# Altium footprint library Connector_Molex.PcbLib: 815 footprints (part 39 of 51)
Each footprint in its own frame and in the unit in brackets; x right, y up, seen from the top. Pads: shape width x height; smd on the part's side, far side on the other; paste and mask are expansions set on the pad; w line width, h text height; cw(c..) or ccw(c..) is an arc to the next point about the centre after c.
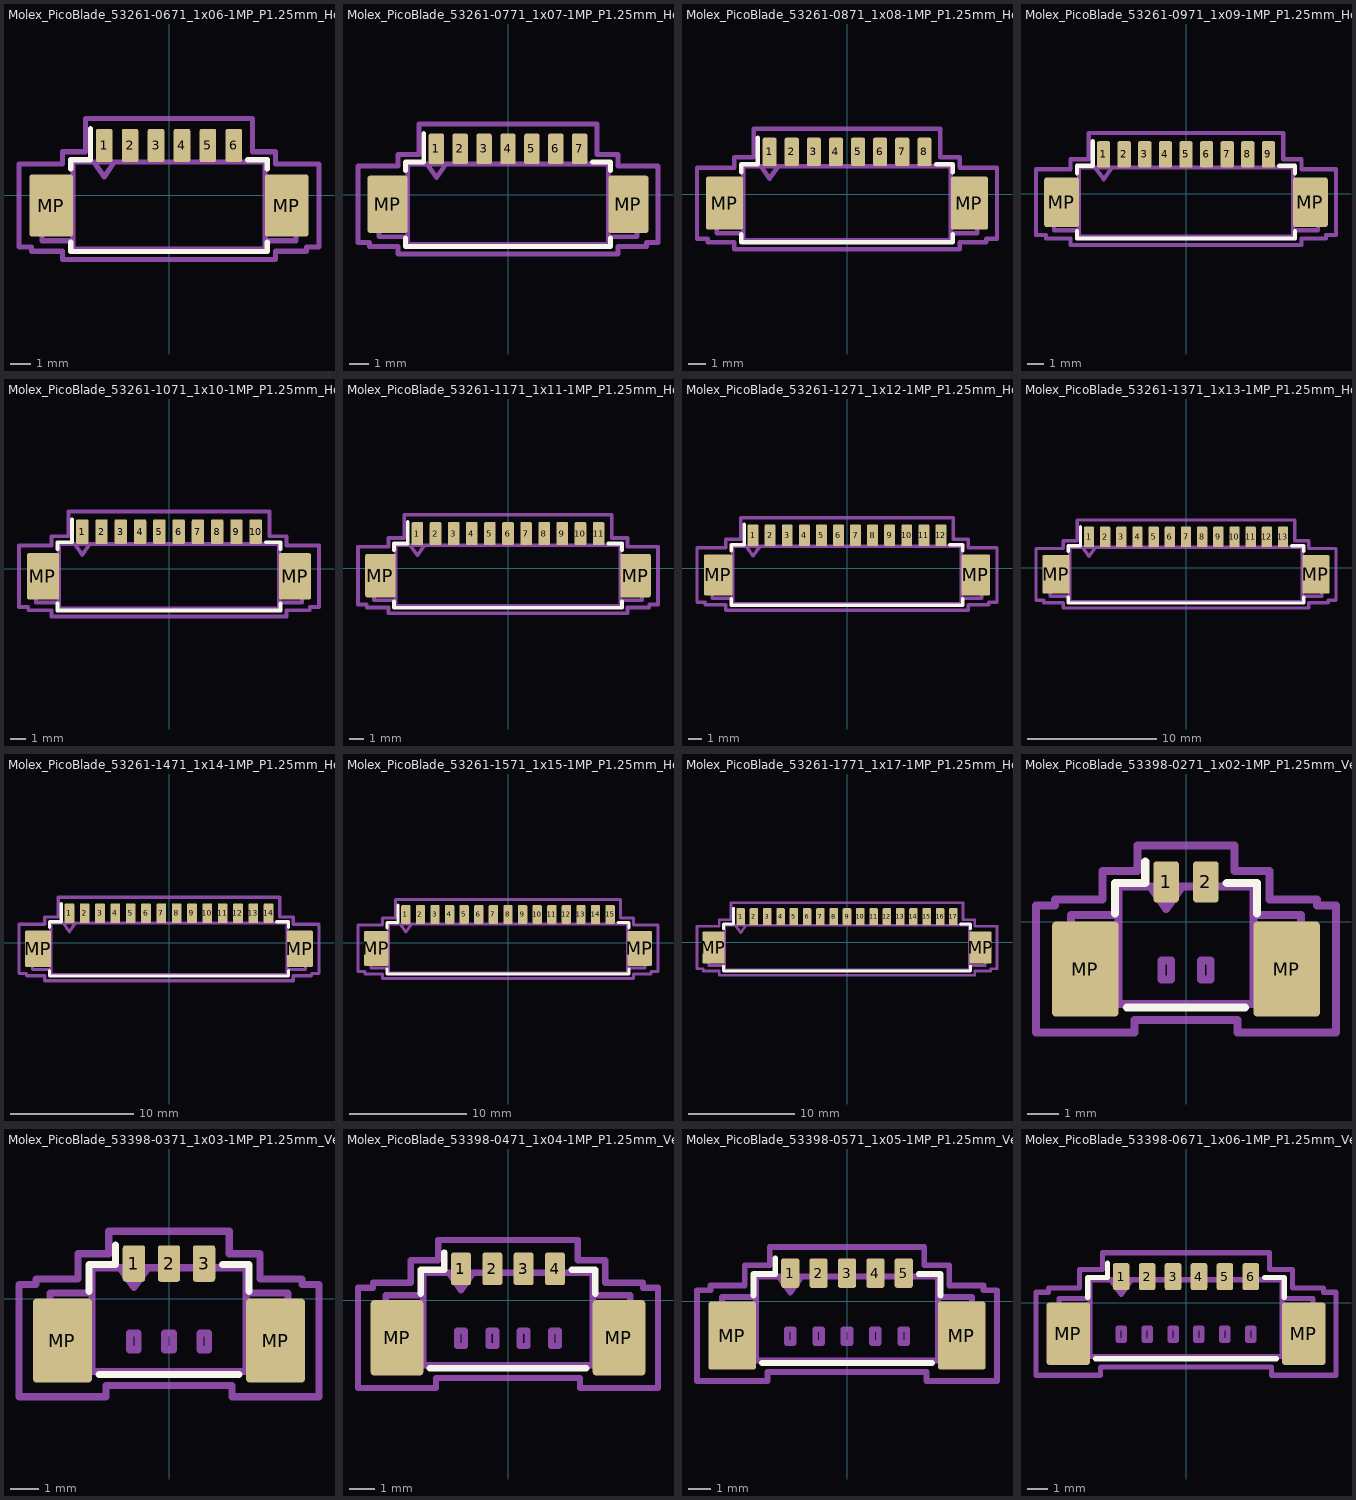
[diagram p38: the footprints below, top view; thin cyan lines are the x and y axes]

## Molex_PicoBlade_53261-0671_1x06-1MP_P1.25mm_Horizontal [mm]
pads (8):
  rrect25% 0.8x1.6 smd: 1(-3.125,2.4) 2(-1.875,2.4) 3(-0.625,2.4) 4(0.625,2.4) 5(1.875,2.4) 6(3.125,2.4)
  rrect12% 2.1x3 smd: MP(-5.675,-0.5) MP(5.675,-0.5)
F.SilkS:
  lines w0.254: -4.735,-2.26 -4.735,-2.71 4.735,-2.71 4.735,-2.26 ; -4.735,1.26 -4.735,1.71 -3.785,1.71 -3.785,3.2 ; 3.785,1.71 4.735,1.71 4.735,1.26
Top Assembly:
  lines w0.254: -4.625,-2.2 -6.125,-2.2 -6.125,-1.6 -6.325,-1.4 -6.325,0.4 -6.125,0.6 -4.625,0.6 ; -3.625,1.6 -3.125,0.893 -2.625,1.6 ; 4.625,-2.2 6.125,-2.2 6.125,-1.6 6.325,-1.4 6.325,0.4 6.125,0.6 4.625,0.6 ; -4.625,-2.6 4.625,-2.6 4.625,1.6 -4.625,1.6 -4.625,-2.6
  text "'.Designator'" at -4.047,-2.74 h1
Top Courtyard:
  lines w0.254: -7.23,-2.5 -6.63,-2.5 -6.63,-2.7 -5.13,-2.7 -5.13,-3.1 5.13,-3.1 5.13,-2.7 6.63,-2.7 6.63,-2.5 7.23,-2.5 7.23,1.5 5.13,1.5 5.13,2.1 4.03,2.1 4.03,3.7 -4.03,3.7 -4.03,2.1 -5.13,2.1 -5.13,1.5 -7.23,1.5 -7.23,-2.5
Top Designator:
  text ".Designator" at -7.618,-0.208 h1.52

## Molex_PicoBlade_53261-0771_1x07-1MP_P1.25mm_Horizontal [mm]
pads (9):
  rrect25% 0.8x1.6 smd: 1(-3.75,2.4) 2(-2.5,2.4) 3(-1.25,2.4) 4(0,2.4) 5(1.25,2.4) 6(2.5,2.4) 7(3.75,2.4)
  rrect12% 2.1x3 smd: MP(-6.3,-0.5) MP(6.3,-0.5)
F.SilkS:
  lines w0.254: -5.36,-2.26 -5.36,-2.71 5.36,-2.71 5.36,-2.26 ; -5.36,1.26 -5.36,1.71 -4.41,1.71 -4.41,3.2 ; 4.41,1.71 5.36,1.71 5.36,1.26
Top Assembly:
  lines w0.254: -5.25,-2.2 -6.75,-2.2 -6.75,-1.6 -6.95,-1.4 -6.95,0.4 -6.75,0.6 -5.25,0.6 ; -4.25,1.6 -3.75,0.893 -3.25,1.6 ; 5.25,-2.2 6.75,-2.2 6.75,-1.6 6.95,-1.4 6.95,0.4 6.75,0.6 5.25,0.6 ; -5.25,-2.6 5.25,-2.6 5.25,1.6 -5.25,1.6 -5.25,-2.6
  text "'.Designator'" at -4.047,-2.74 h1
Top Courtyard:
  lines w0.254: -7.85,-2.5 -7.25,-2.5 -7.25,-2.7 -5.75,-2.7 -5.75,-3.1 5.75,-3.1 5.75,-2.7 7.25,-2.7 7.25,-2.5 7.85,-2.5 7.85,1.5 5.75,1.5 5.75,2.1 4.65,2.1 4.65,3.7 -4.65,3.7 -4.65,2.1 -5.75,2.1 -5.75,1.5 -7.85,1.5 -7.85,-2.5
Top Designator:
  text ".Designator" at -7.618,-0.208 h1.52

## Molex_PicoBlade_53261-0871_1x08-1MP_P1.25mm_Horizontal [mm]
pads (10):
  rrect25% 0.8x1.6 smd: 1(-4.375,2.4) 2(-3.125,2.4) 3(-1.875,2.4) 4(-0.625,2.4) 5(0.625,2.4) 6(1.875,2.4) 7(3.125,2.4) 8(4.375,2.4)
  rrect12% 2.1x3 smd: MP(-6.925,-0.5) MP(6.925,-0.5)
F.SilkS:
  lines w0.254: -5.985,-2.26 -5.985,-2.71 5.985,-2.71 5.985,-2.26 ; -5.985,1.26 -5.985,1.71 -5.035,1.71 -5.035,3.2 ; 5.035,1.71 5.985,1.71 5.985,1.26
Top Assembly:
  lines w0.254: -5.875,-2.2 -7.375,-2.2 -7.375,-1.6 -7.575,-1.4 -7.575,0.4 -7.375,0.6 -5.875,0.6 ; -4.875,1.6 -4.375,0.893 -3.875,1.6 ; 5.875,-2.2 7.375,-2.2 7.375,-1.6 7.575,-1.4 7.575,0.4 7.375,0.6 5.875,0.6 ; -5.875,-2.6 5.875,-2.6 5.875,1.6 -5.875,1.6 -5.875,-2.6
  text "'.Designator'" at -4.047,-2.74 h1
Top Courtyard:
  lines w0.254: -8.48,-2.5 -7.88,-2.5 -7.88,-2.7 -6.38,-2.7 -6.38,-3.1 6.38,-3.1 6.38,-2.7 7.88,-2.7 7.88,-2.5 8.48,-2.5 8.48,1.5 6.38,1.5 6.38,2.1 5.28,2.1 5.28,3.7 -5.28,3.7 -5.28,2.1 -6.38,2.1 -6.38,1.5 -8.48,1.5 -8.48,-2.5
Top Designator:
  text ".Designator" at -7.618,-0.208 h1.52

## Molex_PicoBlade_53261-0971_1x09-1MP_P1.25mm_Horizontal [mm]
pads (11):
  rrect25% 0.8x1.6 smd: 1(-5,2.4) 2(-3.75,2.4) 3(-2.5,2.4) 4(-1.25,2.4) 5(0,2.4) 6(1.25,2.4) 7(2.5,2.4) 8(3.75,2.4) 9(5,2.4)
  rrect12% 2.1x3 smd: MP(-7.55,-0.5) MP(7.55,-0.5)
F.SilkS:
  lines w0.254: -6.61,-2.26 -6.61,-2.71 6.61,-2.71 6.61,-2.26 ; -6.61,1.26 -6.61,1.71 -5.66,1.71 -5.66,3.2 ; 5.66,1.71 6.61,1.71 6.61,1.26
Top Assembly:
  lines w0.254: -6.5,-2.2 -8,-2.2 -8,-1.6 -8.2,-1.4 -8.2,0.4 -8,0.6 -6.5,0.6 ; -5.5,1.6 -5,0.893 -4.5,1.6 ; 6.5,-2.2 8,-2.2 8,-1.6 8.2,-1.4 8.2,0.4 8,0.6 6.5,0.6 ; -6.5,-2.6 6.5,-2.6 6.5,1.6 -6.5,1.6 -6.5,-2.6
  text "'.Designator'" at -4.047,-2.74 h1
Top Courtyard:
  lines w0.254: -9.1,-2.5 -8.5,-2.5 -8.5,-2.7 -7,-2.7 -7,-3.1 7,-3.1 7,-2.7 8.5,-2.7 8.5,-2.5 9.1,-2.5 9.1,1.5 7,1.5 7,2.1 5.9,2.1 5.9,3.7 -5.9,3.7 -5.9,2.1 -7,2.1 -7,1.5 -9.1,1.5 -9.1,-2.5
Top Designator:
  text ".Designator" at -7.618,-0.208 h1.52

## Molex_PicoBlade_53261-1071_1x10-1MP_P1.25mm_Horizontal [mm]
pads (12):
  rrect25% 0.8x1.6 smd: 1(-5.625,2.4) 2(-4.375,2.4) 3(-3.125,2.4) 4(-1.875,2.4) 5(-0.625,2.4) 6(0.625,2.4) 7(1.875,2.4) 8(3.125,2.4) 9(4.375,2.4) 10(5.625,2.4)
  rrect12% 2.1x3 smd: MP(-8.175,-0.5) MP(8.175,-0.5)
F.SilkS:
  lines w0.254: -7.235,-2.26 -7.235,-2.71 7.235,-2.71 7.235,-2.26 ; -7.235,1.26 -7.235,1.71 -6.285,1.71 -6.285,3.2 ; 6.285,1.71 7.235,1.71 7.235,1.26
Top Assembly:
  lines w0.254: -7.125,-2.2 -8.625,-2.2 -8.625,-1.6 -8.825,-1.4 -8.825,0.4 -8.625,0.6 -7.125,0.6 ; -6.125,1.6 -5.625,0.893 -5.125,1.6 ; 7.125,-2.2 8.625,-2.2 8.625,-1.6 8.825,-1.4 8.825,0.4 8.625,0.6 7.125,0.6 ; -7.125,-2.6 7.125,-2.6 7.125,1.6 -7.125,1.6 -7.125,-2.6
  text "'.Designator'" at -4.047,-2.74 h1
Top Courtyard:
  lines w0.254: -9.73,-2.5 -9.13,-2.5 -9.13,-2.7 -7.63,-2.7 -7.63,-3.1 7.63,-3.1 7.63,-2.7 9.13,-2.7 9.13,-2.5 9.73,-2.5 9.73,1.5 7.63,1.5 7.63,2.1 6.53,2.1 6.53,3.7 -6.53,3.7 -6.53,2.1 -7.63,2.1 -7.63,1.5 -9.73,1.5 -9.73,-2.5
Top Designator:
  text ".Designator" at -7.618,-0.208 h1.52

## Molex_PicoBlade_53261-1171_1x11-1MP_P1.25mm_Horizontal [mm]
pads (13):
  rrect25% 0.8x1.6 smd: 1(-6.25,2.4) 2(-5,2.4) 3(-3.75,2.4) 4(-2.5,2.4) 5(-1.25,2.4) 6(0,2.4) 7(1.25,2.4) 8(2.5,2.4) 9(3.75,2.4) 10(5,2.4) 11(6.25,2.4)
  rrect12% 2.1x3 smd: MP(-8.8,-0.5) MP(8.8,-0.5)
F.SilkS:
  lines w0.254: -7.86,-2.26 -7.86,-2.71 7.86,-2.71 7.86,-2.26 ; -7.86,1.26 -7.86,1.71 -6.91,1.71 -6.91,3.2 ; 6.91,1.71 7.86,1.71 7.86,1.26
Top Assembly:
  lines w0.254: -7.75,-2.2 -9.25,-2.2 -9.25,-1.6 -9.45,-1.4 -9.45,0.4 -9.25,0.6 -7.75,0.6 ; -6.75,1.6 -6.25,0.893 -5.75,1.6 ; 7.75,-2.2 9.25,-2.2 9.25,-1.6 9.45,-1.4 9.45,0.4 9.25,0.6 7.75,0.6 ; -7.75,-2.6 7.75,-2.6 7.75,1.6 -7.75,1.6 -7.75,-2.6
  text "'.Designator'" at -4.047,-2.74 h1
Top Courtyard:
  lines w0.254: -10.35,-2.5 -9.75,-2.5 -9.75,-2.7 -8.25,-2.7 -8.25,-3.1 8.25,-3.1 8.25,-2.7 9.75,-2.7 9.75,-2.5 10.35,-2.5 10.35,1.5 8.25,1.5 8.25,2.1 7.15,2.1 7.15,3.7 -7.15,3.7 -7.15,2.1 -8.25,2.1 -8.25,1.5 -10.35,1.5 -10.35,-2.5
Top Designator:
  text ".Designator" at -7.618,-0.208 h1.52

## Molex_PicoBlade_53261-1271_1x12-1MP_P1.25mm_Horizontal [mm]
pads (14):
  rrect25% 0.8x1.6 smd: 1(-6.875,2.4) 2(-5.625,2.4) 3(-4.375,2.4) 4(-3.125,2.4) 5(-1.875,2.4) 6(-0.625,2.4) 7(0.625,2.4) 8(1.875,2.4) 9(3.125,2.4) 10(4.375,2.4) 11(5.625,2.4) 12(6.875,2.4)
  rrect12% 2.1x3 smd: MP(-9.425,-0.5) MP(9.425,-0.5)
F.SilkS:
  lines w0.254: -8.485,-2.26 -8.485,-2.71 8.485,-2.71 8.485,-2.26 ; -8.485,1.26 -8.485,1.71 -7.535,1.71 -7.535,3.2 ; 7.535,1.71 8.485,1.71 8.485,1.26
Top Assembly:
  lines w0.254: -8.375,-2.2 -9.875,-2.2 -9.875,-1.6 -10.075,-1.4 -10.075,0.4 -9.875,0.6 -8.375,0.6 ; -7.375,1.6 -6.875,0.893 -6.375,1.6 ; 8.375,-2.2 9.875,-2.2 9.875,-1.6 10.075,-1.4 10.075,0.4 9.875,0.6 8.375,0.6 ; -8.375,-2.6 8.375,-2.6 8.375,1.6 -8.375,1.6 -8.375,-2.6
  text "'.Designator'" at -4.047,-2.74 h1
Top Courtyard:
  lines w0.254: -10.98,-2.5 -10.38,-2.5 -10.38,-2.7 -8.88,-2.7 -8.88,-3.1 8.88,-3.1 8.88,-2.7 10.38,-2.7 10.38,-2.5 10.98,-2.5 10.98,1.5 8.88,1.5 8.88,2.1 7.78,2.1 7.78,3.7 -7.78,3.7 -7.78,2.1 -8.88,2.1 -8.88,1.5 -10.98,1.5 -10.98,-2.5
Top Designator:
  text ".Designator" at -7.618,-0.208 h1.52

## Molex_PicoBlade_53261-1371_1x13-1MP_P1.25mm_Horizontal [mm]
pads (15):
  rrect25% 0.8x1.6 smd: 1(-7.5,2.4) 2(-6.25,2.4) 3(-5,2.4) 4(-3.75,2.4) 5(-2.5,2.4) 6(-1.25,2.4) 7(0,2.4) 8(1.25,2.4) 9(2.5,2.4) 10(3.75,2.4) 11(5,2.4) 12(6.25,2.4) 13(7.5,2.4)
  rrect12% 2.1x3 smd: MP(-10.05,-0.5) MP(10.05,-0.5)
F.SilkS:
  lines w0.254: -9.11,-2.26 -9.11,-2.71 9.11,-2.71 9.11,-2.26 ; -9.11,1.26 -9.11,1.71 -8.16,1.71 -8.16,3.2 ; 8.16,1.71 9.11,1.71 9.11,1.26
Top Assembly:
  lines w0.254: -9,-2.2 -10.5,-2.2 -10.5,-1.6 -10.7,-1.4 -10.7,0.4 -10.5,0.6 -9,0.6 ; -8,1.6 -7.5,0.893 -7,1.6 ; 9,-2.2 10.5,-2.2 10.5,-1.6 10.7,-1.4 10.7,0.4 10.5,0.6 9,0.6 ; -9,-2.6 9,-2.6 9,1.6 -9,1.6 -9,-2.6
  text "'.Designator'" at -4.047,-2.74 h1
Top Courtyard:
  lines w0.254: -11.6,-2.5 -11,-2.5 -11,-2.7 -9.5,-2.7 -9.5,-3.1 9.5,-3.1 9.5,-2.7 11,-2.7 11,-2.5 11.6,-2.5 11.6,1.5 9.5,1.5 9.5,2.1 8.4,2.1 8.4,3.7 -8.4,3.7 -8.4,2.1 -9.5,2.1 -9.5,1.5 -11.6,1.5 -11.6,-2.5
Top Designator:
  text ".Designator" at -7.618,-0.208 h1.52

## Molex_PicoBlade_53261-1471_1x14-1MP_P1.25mm_Horizontal [mm]
pads (16):
  rrect25% 0.8x1.6 smd: 1(-8.125,2.4) 2(-6.875,2.4) 3(-5.625,2.4) 4(-4.375,2.4) 5(-3.125,2.4) 6(-1.875,2.4) 7(-0.625,2.4) 8(0.625,2.4) 9(1.875,2.4) 10(3.125,2.4) 11(4.375,2.4) 12(5.625,2.4) 13(6.875,2.4) 14(8.125,2.4)
  rrect12% 2.1x3 smd: MP(-10.675,-0.5) MP(10.675,-0.5)
F.SilkS:
  lines w0.254: -9.735,-2.26 -9.735,-2.71 9.735,-2.71 9.735,-2.26 ; -9.735,1.26 -9.735,1.71 -8.785,1.71 -8.785,3.2 ; 8.785,1.71 9.735,1.71 9.735,1.26
Top Assembly:
  lines w0.254: -9.625,-2.2 -11.125,-2.2 -11.125,-1.6 -11.325,-1.4 -11.325,0.4 -11.125,0.6 -9.625,0.6 ; -8.625,1.6 -8.125,0.893 -7.625,1.6 ; 9.625,-2.2 11.125,-2.2 11.125,-1.6 11.325,-1.4 11.325,0.4 11.125,0.6 9.625,0.6 ; -9.625,-2.6 9.625,-2.6 9.625,1.6 -9.625,1.6 -9.625,-2.6
  text "'.Designator'" at -4.047,-2.74 h1
Top Courtyard:
  lines w0.254: -12.23,-2.5 -11.63,-2.5 -11.63,-2.7 -10.13,-2.7 -10.13,-3.1 10.13,-3.1 10.13,-2.7 11.63,-2.7 11.63,-2.5 12.23,-2.5 12.23,1.5 10.13,1.5 10.13,2.1 9.03,2.1 9.03,3.7 -9.03,3.7 -9.03,2.1 -10.13,2.1 -10.13,1.5 -12.23,1.5 -12.23,-2.5
Top Designator:
  text ".Designator" at -7.618,-0.208 h1.52

## Molex_PicoBlade_53261-1571_1x15-1MP_P1.25mm_Horizontal [mm]
pads (17):
  rrect25% 0.8x1.6 smd: 1(-8.75,2.4) 2(-7.5,2.4) 3(-6.25,2.4) 4(-5,2.4) 5(-3.75,2.4) 6(-2.5,2.4) 7(-1.25,2.4) 8(0,2.4) 9(1.25,2.4) 10(2.5,2.4) 11(3.75,2.4) 12(5,2.4) 13(6.25,2.4) 14(7.5,2.4) 15(8.75,2.4)
  rrect12% 2.1x3 smd: MP(-11.3,-0.5) MP(11.3,-0.5)
F.SilkS:
  lines w0.254: -10.36,-2.26 -10.36,-2.71 10.36,-2.71 10.36,-2.26 ; -10.36,1.26 -10.36,1.71 -9.41,1.71 -9.41,3.2 ; 9.41,1.71 10.36,1.71 10.36,1.26
Top Assembly:
  lines w0.254: -10.25,-2.2 -11.75,-2.2 -11.75,-1.6 -11.95,-1.4 -11.95,0.4 -11.75,0.6 -10.25,0.6 ; -9.25,1.6 -8.75,0.893 -8.25,1.6 ; 10.25,-2.2 11.75,-2.2 11.75,-1.6 11.95,-1.4 11.95,0.4 11.75,0.6 10.25,0.6 ; -10.25,-2.6 10.25,-2.6 10.25,1.6 -10.25,1.6 -10.25,-2.6
  text "'.Designator'" at -4.047,-2.74 h1
Top Courtyard:
  lines w0.254: -12.85,-2.5 -12.25,-2.5 -12.25,-2.7 -10.75,-2.7 -10.75,-3.1 10.75,-3.1 10.75,-2.7 12.25,-2.7 12.25,-2.5 12.85,-2.5 12.85,1.5 10.75,1.5 10.75,2.1 9.65,2.1 9.65,3.7 -9.65,3.7 -9.65,2.1 -10.75,2.1 -10.75,1.5 -12.85,1.5 -12.85,-2.5
Top Designator:
  text ".Designator" at -7.618,-0.208 h1.52

## Molex_PicoBlade_53261-1771_1x17-1MP_P1.25mm_Horizontal [mm]
pads (19):
  rrect25% 0.8x1.6 smd: 1(-10,2.4) 2(-8.75,2.4) 3(-7.5,2.4) 4(-6.25,2.4) 5(-5,2.4) 6(-3.75,2.4) 7(-2.5,2.4) 8(-1.25,2.4) 9(0,2.4) 10(1.25,2.4) 11(2.5,2.4) 12(3.75,2.4) 13(5,2.4) 14(6.25,2.4) 15(7.5,2.4) 16(8.75,2.4) 17(10,2.4)
  rrect12% 2.1x3 smd: MP(-12.55,-0.5) MP(12.55,-0.5)
F.SilkS:
  lines w0.254: -11.61,-2.26 -11.61,-2.71 11.61,-2.71 11.61,-2.26 ; -11.61,1.26 -11.61,1.71 -10.66,1.71 -10.66,3.2 ; 10.66,1.71 11.61,1.71 11.61,1.26
Top Assembly:
  lines w0.254: -11.5,-2.2 -13,-2.2 -13,-1.6 -13.2,-1.4 -13.2,0.4 -13,0.6 -11.5,0.6 ; -10.5,1.6 -10,0.893 -9.5,1.6 ; 11.5,-2.2 13,-2.2 13,-1.6 13.2,-1.4 13.2,0.4 13,0.6 11.5,0.6 ; -11.5,-2.6 11.5,-2.6 11.5,1.6 -11.5,1.6 -11.5,-2.6
  text "'.Designator'" at -4.047,-2.74 h1
Top Courtyard:
  lines w0.254: -14.1,-2.5 -13.5,-2.5 -13.5,-2.7 -12,-2.7 -12,-3.1 12,-3.1 12,-2.7 13.5,-2.7 13.5,-2.5 14.1,-2.5 14.1,1.5 12,1.5 12,2.1 10.9,2.1 10.9,3.7 -10.9,3.7 -10.9,2.1 -12,2.1 -12,1.5 -14.1,1.5 -14.1,-2.5
Top Designator:
  text ".Designator" at -7.618,-0.208 h1.52

## Molex_PicoBlade_53398-0271_1x02-1MP_P1.25mm_Vertical [mm]
pads (4):
  rrect25% 0.8x1.3 smd: 1(-0.625,1.25) 2(0.625,1.25)
  rrect12% 2.1x3 smd: MP(-3.175,-1.5) MP(3.175,-1.5)
F.SilkS:
  lines w0.254: -2.235,0.26 -2.235,1.21 -1.285,1.21 -1.285,1.9 ; -1.865,-2.71 1.865,-2.71 ; 1.285,1.21 2.235,1.21 2.235,0.26
Top Assembly:
  lines w0.254: -2.125,0.2 -3.625,0.2 -3.625,-0.4 -3.825,-0.6 -3.825,-2.4 -3.625,-2.6 -2.125,-2.6 ; -1.125,1.1 -0.625,0.393 -0.125,1.1 ; 2.125,0.2 3.625,0.2 3.625,-0.4 3.825,-0.6 3.825,-2.4 3.625,-2.6 2.125,-2.6 ; -2.125,-2.6 2.125,-2.6 ; -2.125,-2.6 -2.125,1.1 2.125,1.1 2.125,-2.6 ; -0.775,-1.825 -0.475,-1.825 -0.475,-1.225 -0.775,-1.225 -0.775,-1.825 ; 0.475,-1.825 0.775,-1.825 0.775,-1.225 0.475,-1.225 0.475,-1.825
  text "'.Designator'" at -4.047,-1.24 h1
Top Courtyard:
  lines w0.254: -4.73,-3.5 -1.62,-3.5 -1.62,-3.1 1.62,-3.1 1.62,-3.5 4.73,-3.5 4.73,0.5 4.13,0.5 4.13,0.7 2.63,0.7 2.63,1.6 1.53,1.6 1.53,2.4 -1.53,2.4 -1.53,1.6 -2.63,1.6 -2.63,0.7 -4.13,0.7 -4.13,0.5 -4.73,0.5 -4.73,-3.5
Top Designator:
  text ".Designator" at -7.618,-1.058 h1.52

## Molex_PicoBlade_53398-0371_1x03-1MP_P1.25mm_Vertical [mm]
pads (5):
  rrect25% 0.8x1.3 smd: 1(-1.25,1.25) 2(0,1.25) 3(1.25,1.25)
  rrect12% 2.1x3 smd: MP(-3.8,-1.5) MP(3.8,-1.5)
F.SilkS:
  lines w0.254: -2.86,0.26 -2.86,1.21 -1.91,1.21 -1.91,1.9 ; -2.49,-2.71 2.49,-2.71 ; 1.91,1.21 2.86,1.21 2.86,0.26
Top Assembly:
  lines w0.254: -2.75,0.2 -4.25,0.2 -4.25,-0.4 -4.45,-0.6 -4.45,-2.4 -4.25,-2.6 -2.75,-2.6 ; -1.75,1.1 -1.25,0.393 -0.75,1.1 ; 2.75,0.2 4.25,0.2 4.25,-0.4 4.45,-0.6 4.45,-2.4 4.25,-2.6 2.75,-2.6 ; -2.75,-2.6 2.75,-2.6 ; -2.75,-2.6 -2.75,1.1 2.75,1.1 2.75,-2.6 ; -1.4,-1.825 -1.1,-1.825 -1.1,-1.225 -1.4,-1.225 -1.4,-1.825 ; -0.15,-1.825 0.15,-1.825 0.15,-1.225 -0.15,-1.225 -0.15,-1.825 ; 1.1,-1.825 1.4,-1.825 1.4,-1.225 1.1,-1.225 1.1,-1.825
  text "'.Designator'" at -4.047,-1.24 h1
Top Courtyard:
  lines w0.254: -5.35,-3.5 -2.25,-3.5 -2.25,-3.1 2.25,-3.1 2.25,-3.5 5.35,-3.5 5.35,0.5 4.75,0.5 4.75,0.7 3.25,0.7 3.25,1.6 2.15,1.6 2.15,2.4 -2.15,2.4 -2.15,1.6 -3.25,1.6 -3.25,0.7 -4.75,0.7 -4.75,0.5 -5.35,0.5 -5.35,-3.5
Top Designator:
  text ".Designator" at -7.618,-1.058 h1.52

## Molex_PicoBlade_53398-0471_1x04-1MP_P1.25mm_Vertical [mm]
pads (6):
  rrect25% 0.8x1.3 smd: 1(-1.875,1.25) 2(-0.625,1.25) 3(0.625,1.25) 4(1.875,1.25)
  rrect12% 2.1x3 smd: MP(-4.425,-1.5) MP(4.425,-1.5)
F.SilkS:
  lines w0.254: -3.485,0.26 -3.485,1.21 -2.535,1.21 -2.535,1.9 ; -3.115,-2.71 3.115,-2.71 ; 2.535,1.21 3.485,1.21 3.485,0.26
Top Assembly:
  lines w0.254: -3.375,0.2 -4.875,0.2 -4.875,-0.4 -5.075,-0.6 -5.075,-2.4 -4.875,-2.6 -3.375,-2.6 ; -2.375,1.1 -1.875,0.393 -1.375,1.1 ; 3.375,0.2 4.875,0.2 4.875,-0.4 5.075,-0.6 5.075,-2.4 4.875,-2.6 3.375,-2.6 ; -3.375,-2.6 3.375,-2.6 ; -3.375,-2.6 -3.375,1.1 3.375,1.1 3.375,-2.6 ; -2.025,-1.825 -1.725,-1.825 -1.725,-1.225 -2.025,-1.225 -2.025,-1.825 ; -0.775,-1.825 -0.475,-1.825 -0.475,-1.225 -0.775,-1.225 -0.775,-1.825 ; 0.475,-1.825 0.775,-1.825 0.775,-1.225 0.475,-1.225 0.475,-1.825 ; 1.725,-1.825 2.025,-1.825 2.025,-1.225 1.725,-1.225 1.725,-1.825
  text "'.Designator'" at -4.047,-1.24 h1
Top Courtyard:
  lines w0.254: -5.98,-3.5 -2.87,-3.5 -2.87,-3.1 2.87,-3.1 2.87,-3.5 5.98,-3.5 5.98,0.5 5.38,0.5 5.38,0.7 3.88,0.7 3.88,1.6 2.78,1.6 2.78,2.4 -2.78,2.4 -2.78,1.6 -3.88,1.6 -3.88,0.7 -5.38,0.7 -5.38,0.5 -5.98,0.5 -5.98,-3.5
Top Designator:
  text ".Designator" at -7.618,-1.058 h1.52

## Molex_PicoBlade_53398-0571_1x05-1MP_P1.25mm_Vertical [mm]
pads (7):
  rrect25% 0.8x1.3 smd: 1(-2.5,1.25) 2(-1.25,1.25) 3(0,1.25) 4(1.25,1.25) 5(2.5,1.25)
  rrect12% 2.1x3 smd: MP(-5.05,-1.5) MP(5.05,-1.5)
F.SilkS:
  lines w0.254: -4.11,0.26 -4.11,1.21 -3.16,1.21 -3.16,1.9 ; -3.74,-2.71 3.74,-2.71 ; 3.16,1.21 4.11,1.21 4.11,0.26
Top Assembly:
  lines w0.254: -4,0.2 -5.5,0.2 -5.5,-0.4 -5.7,-0.6 -5.7,-2.4 -5.5,-2.6 -4,-2.6 ; -3,1.1 -2.5,0.393 -2,1.1 ; 4,0.2 5.5,0.2 5.5,-0.4 5.7,-0.6 5.7,-2.4 5.5,-2.6 4,-2.6 ; -4,-2.6 4,-2.6 ; -4,-2.6 -4,1.1 4,1.1 4,-2.6 ; -2.65,-1.825 -2.35,-1.825 -2.35,-1.225 -2.65,-1.225 -2.65,-1.825 ; -1.4,-1.825 -1.1,-1.825 -1.1,-1.225 -1.4,-1.225 -1.4,-1.825 ; -0.15,-1.825 0.15,-1.825 0.15,-1.225 -0.15,-1.225 -0.15,-1.825 ; 1.1,-1.825 1.4,-1.825 1.4,-1.225 1.1,-1.225 1.1,-1.825 ; 2.35,-1.825 2.65,-1.825 2.65,-1.225 2.35,-1.225 2.35,-1.825
  text "'.Designator'" at -4.047,-1.24 h1
Top Courtyard:
  lines w0.254: -6.6,-3.5 -3.5,-3.5 -3.5,-3.1 3.5,-3.1 3.5,-3.5 6.6,-3.5 6.6,0.5 6,0.5 6,0.7 4.5,0.7 4.5,1.6 3.4,1.6 3.4,2.4 -3.4,2.4 -3.4,1.6 -4.5,1.6 -4.5,0.7 -6,0.7 -6,0.5 -6.6,0.5 -6.6,-3.5
Top Designator:
  text ".Designator" at -7.618,-1.058 h1.52

## Molex_PicoBlade_53398-0671_1x06-1MP_P1.25mm_Vertical [mm]
pads (8):
  rrect25% 0.8x1.3 smd: 1(-3.125,1.25) 2(-1.875,1.25) 3(-0.625,1.25) 4(0.625,1.25) 5(1.875,1.25) 6(3.125,1.25)
  rrect12% 2.1x3 smd: MP(-5.675,-1.5) MP(5.675,-1.5)
F.SilkS:
  lines w0.254: -4.735,0.26 -4.735,1.21 -3.785,1.21 -3.785,1.9 ; -4.365,-2.71 4.365,-2.71 ; 3.785,1.21 4.735,1.21 4.735,0.26
Top Assembly:
  lines w0.254: -4.625,0.2 -6.125,0.2 -6.125,-0.4 -6.325,-0.6 -6.325,-2.4 -6.125,-2.6 -4.625,-2.6 ; -3.625,1.1 -3.125,0.393 -2.625,1.1 ; 4.625,0.2 6.125,0.2 6.125,-0.4 6.325,-0.6 6.325,-2.4 6.125,-2.6 4.625,-2.6 ; -4.625,-2.6 4.625,-2.6 ; -4.625,-2.6 -4.625,1.1 4.625,1.1 4.625,-2.6 ; -3.275,-1.825 -2.975,-1.825 -2.975,-1.225 -3.275,-1.225 -3.275,-1.825 ; -2.025,-1.825 -1.725,-1.825 -1.725,-1.225 -2.025,-1.225 -2.025,-1.825 ; -0.775,-1.825 -0.475,-1.825 -0.475,-1.225 -0.775,-1.225 -0.775,-1.825 ; 0.475,-1.825 0.775,-1.825 0.775,-1.225 0.475,-1.225 0.475,-1.825 ; 1.725,-1.825 2.025,-1.825 2.025,-1.225 1.725,-1.225 1.725,-1.825 ; 2.975,-1.825 3.275,-1.825 3.275,-1.225 2.975,-1.225 2.975,-1.825
  text "'.Designator'" at -4.047,-1.24 h1
Top Courtyard:
  lines w0.254: -7.23,-3.5 -4.12,-3.5 -4.12,-3.1 4.12,-3.1 4.12,-3.5 7.23,-3.5 7.23,0.5 6.63,0.5 6.63,0.7 5.13,0.7 5.13,1.6 4.03,1.6 4.03,2.4 -4.03,2.4 -4.03,1.6 -5.13,1.6 -5.13,0.7 -6.63,0.7 -6.63,0.5 -7.23,0.5 -7.23,-3.5
Top Designator:
  text ".Designator" at -7.618,-1.058 h1.52